# Altium schematic symbol library Schlib1.SchLib: 1 symbol
Pins are listed as number, name and electrical type; pins without a type are passive.

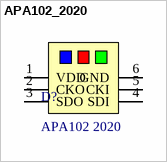
[diagram p0: symbol APA102_2020]

## APA102_2020
designator D?, comment APA102 2020
AdaFruit: 3341; DigiKey: 1528-2392-ND
footprint PCBComponent_1
pins: 1 VDD, 2 CKO, 3 SDO, 4 SDI, 5 CKI, 6 GND